# EAGLE library part RASPBERRY_PI_HEADER (library Nick Firmani)
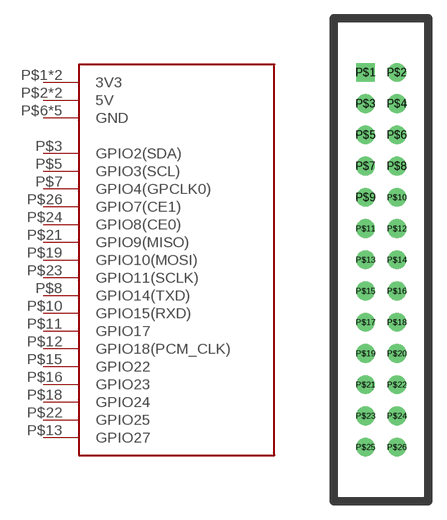
[diagram p2: symbol with the pads of BOXHEADER-LOW_PROFILE; footprint BOXHEADER-LOW_PROFILE]

Designator prefix -

## RASPBERRY_PI_HEADER  [BOXHEADER-LOW_PROFILE]
P$1  3V3
P$2  5V
P$3  GPIO2(SDA)
P$4  5V
P$5  GPIO3(SCL)
P$6  GND
P$7  GPIO4(GPCLK0)
P$8  GPIO14(TXD)
P$9  GND
P$10  GPIO15(RXD)
P$11  GPIO17
P$12  GPIO18(PCM_CLK)
P$13  GPIO27
P$14  GND
P$15  GPIO22
P$16  GPIO23
P$17  3V3
P$18  GPIO24
P$19  GPIO10(MOSI)
P$20  GND
P$21  GPIO9(MISO)
P$22  GPIO25
P$23  GPIO11(SCLK)
P$24  GPIO8(CE0)
P$25  GND
P$26  GPIO7(CE1)

## Footprint BOXHEADER-LOW_PROFILE (pad centres in mm)
drill 1 square: P$1 -1.27,15.24
drill 1: P$2 1.27,15.24; P$3 -1.27,12.7; P$4 1.27,12.7; P$5 -1.27,10.16; P$6 1.27,10.16; P$7 -1.27,7.62; P$8 1.27,7.62; P$9 -1.27,5.08; P$10 1.27,5.08; P$11 -1.27,2.54; P$12 1.27,2.54; P$13 -1.27,0; P$14 1.27,0; P$15 -1.27,-2.54; P$16 1.27,-2.54; P$17 -1.27,-5.08; P$18 1.27,-5.08; P$19 -1.27,-7.62; P$20 1.27,-7.62; P$21 -1.27,-10.16; P$22 1.27,-10.16; P$23 -1.27,-12.7; P$24 1.27,-12.7; P$25 -1.27,-15.24; P$26 1.27,-15.24